# EAGLE library part TPS61170 (library PowerTechLIB2)
TPS61170
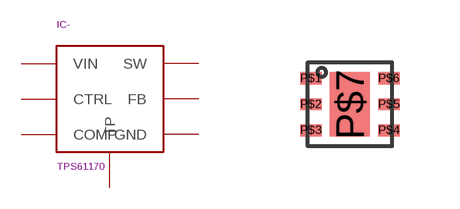
[diagram p15: symbol with the pads of QF6-HZ; footprint QF6-HZ]

Designator prefix IC-

## TPS61170  [QF6-HZ]
P$1  FB
P$2  COMP
P$3  GND
P$4  SW
P$5  CTRL
P$6  VIN
P$7  TP

## Footprint QF6-HZ (pad centres in mm)
smd 0.54 x 0.3: P$1 -0.975,0.65; P$2 -0.975,0; P$3 -0.975,-0.65; P$4 0.975,-0.65; P$5 0.975,0; P$6 0.975,0.65
smd 1 x 1.6: P$7 0,0